# Altium footprint library PcbLib1.PcbLib: 46 footprints (part 3 of 3)
Each footprint in its own frame and in the unit in brackets; x right, y up, seen from the top. Pads: shape width x height; smd on the part's side, far side on the other; paste and mask are expansions set on the pad; w line width, h text height; cw(c..) or ccw(c..) is an arc to the next point about the centre after c.
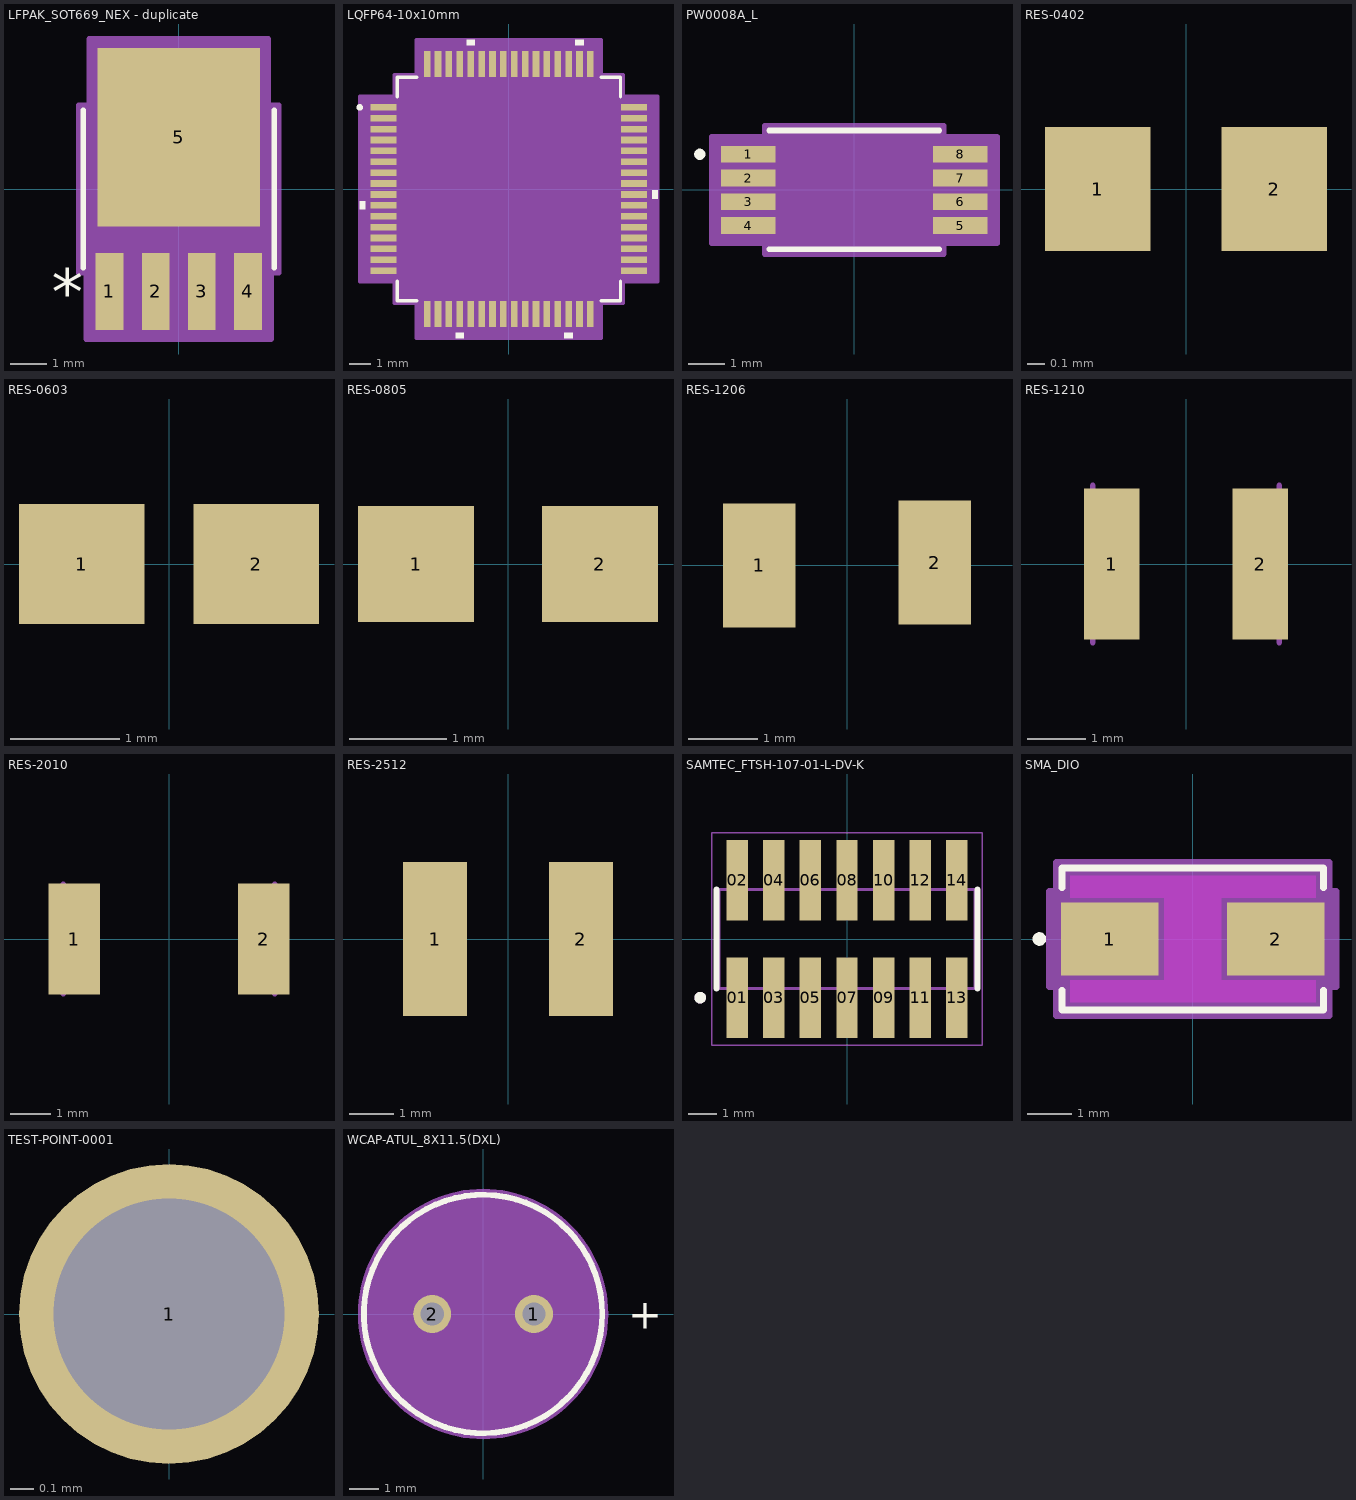
[diagram p2: the footprints below, top view; thin cyan lines are the x and y axes]

## LFPAK_SOT669_NEX - duplicate [mil]
pads (5):
  rect 30x83 smd paste+0 mask+0: 1(-75,-111) 2(-25,-111) 3(25,-111) 4(75,-111)
  rect 176x193 smd paste+0 mask+0: 5(0,56)
Top Overlay:
  lines w6: -103.5,-85.5 -103.5,85.5 ; 103.5,-85.5 103.5,85.5
  text "*" at -137.5,-136 h50
Top 3D Body:
  lines w1: -98.5,-80.5 -98.5,80.5 98.5,80.5 98.5,-80.5 -98.5,-80.5 ; -85,-132.5 -65,-132.5 -65,-80.5 -85,-80.5 -85,-132.5 ; -35,-132.5 -15,-132.5 -15,-80.5 -35,-80.5 -35,-132.5 ; 15,-132.5 35,-132.5 35,-80.5 15,-80.5 15,-132.5 ; 65,-132.5 85,-132.5 85,-80.5 65,-80.5 65,-132.5
  text "*" at -87.5,-95.5 h50
Top Courtyard:
  region: -108.5,-90.5 -108.5,90.5 -97,90.5 -97,162.5 97,162.5 97,90.5 108.5,90.5 108.5,-90.5 100,-90.5 100,-162.5 -100,-162.5 -100,-90.5
  lines w6: -108.5,-90.5 -100,-90.5 -100,-162.5 100,-162.5 100,-90.5 108.5,-90.5 108.5,90.5 97,90.5 97,162.5 -97,162.5 -97,90.5 -108.5,90.5 -108.5,-90.5
3D body "PSMN5R5-100YSFX.stp": height 29.44, standoff -9.84, extent -95.67,-115.55 93.7,125

## LQFP64-10x10mm [mm]
pads (64):
  rect 1.194x0.305 smd paste+0 mask+0: 1(-5.75,3.75) 2(-5.75,3.25) 3(-5.75,2.75) 4(-5.75,2.25) 5(-5.75,1.75) 6(-5.75,1.25) 7(-5.75,0.75) 8(-5.75,0.25) 9(-5.75,-0.25) 10(-5.75,-0.75) 11(-5.75,-1.25) 12(-5.75,-1.75) 13(-5.75,-2.25) 14(-5.75,-2.75) 15(-5.75,-3.25) 16(-5.75,-3.75) 33(5.75,-3.75) 34(5.75,-3.25) 35(5.75,-2.75) 36(5.75,-2.25) 37(5.75,-1.75) 38(5.75,-1.25) 39(5.75,-0.75) 40(5.75,-0.25) 41(5.75,0.25) 42(5.75,0.75) 43(5.75,1.25) 44(5.75,1.75) 45(5.75,2.25) 46(5.75,2.75) 47(5.75,3.25) 48(5.75,3.75)
  rect 0.305x1.194 smd paste+0 mask+0: 17(-3.75,-5.75) 18(-3.25,-5.75) 19(-2.75,-5.75) 20(-2.25,-5.75) 21(-1.75,-5.75) 22(-1.25,-5.75) 23(-0.75,-5.75) 24(-0.25,-5.75) 25(0.25,-5.75) 26(0.75,-5.75) 27(1.25,-5.75) 28(1.75,-5.75) 29(2.25,-5.75) 30(2.75,-5.75) 31(3.25,-5.75) 32(3.75,-5.75) 49(3.75,5.75) 50(3.25,5.75) 51(2.75,5.75) 52(2.25,5.75) 53(1.75,5.75) 54(1.25,5.75) 55(0.75,5.75) 56(0.25,5.75) 57(-0.25,5.75) 58(-0.75,5.75) 59(-1.25,5.75) 60(-1.75,5.75) 61(-2.25,5.75) 62(-2.75,5.75) 63(-3.25,5.75) 64(-3.75,5.75)
Top Overlay:
  circle w0.152: c-6.851,3.75 r0.076
  region: -6.601,-0.56 -6.855,-0.56 -6.855,-0.941 -6.601,-0.941
  region: -2.06,-6.601 -2.441,-6.601 -2.441,-6.855 -2.06,-6.855
  region: 2.94,-6.601 2.559,-6.601 2.559,-6.855 2.94,-6.855
  region: 6.601,-0.059 6.855,-0.059 6.855,-0.44 6.601,-0.44
  region: 3.441,6.601 3.06,6.601 3.06,6.855 3.441,6.855
  region: -1.559,6.601 -1.94,6.601 -1.94,6.855 -1.559,6.855
  lines w0.152: -5.131,-4.234 -5.131,-5.131 -4.234,-5.131 ; -5.131,4.234 -5.131,5.131 -4.234,5.131 ; 4.234,-5.131 5.131,-5.131 5.131,-4.234 ; 4.234,5.131 5.131,5.131 5.131,4.234
Top 3D Body:
  circle w0: c-4.518,3.75 r0.076
  lines w0.025: -5.004,3.734 -3.734,5.004 ; -5.004,-5.004 5.004,-5.004 5.004,5.004 -5.004,5.004 -5.004,-5.004
Top Courtyard:
  region: -4.258,-5.258 -5.258,-5.258 -5.258,-4.258 -6.855,-4.258 -6.855,4.258 -5.258,4.258 -5.258,5.258 -4.258,5.258 -4.258,6.855 4.258,6.855 4.258,5.258 5.258,5.258 5.258,4.258 6.855,4.258 6.855,-4.258 5.258,-4.258 5.258,-5.258 4.258,-5.258 4.258,-6.855 -4.258,-6.855
  lines w0.152: -6.855,-4.258 -5.258,-4.258 -5.258,-5.258 -4.258,-5.258 -4.258,-6.855 4.258,-6.855 4.258,-5.258 5.258,-5.258 5.258,-4.258 6.855,-4.258 6.855,4.258 5.258,4.258 5.258,5.258 4.258,5.258 4.258,6.855 -4.258,6.855 -4.258,5.258 -5.258,5.258 -5.258,4.258 -6.855,4.258 -6.855,-4.258
3D body "LQFP64-10x10mm.step": height 1.6, standoff 0, extent -5.997,-5.997 5.997,5.997

## PW0008A_L [mm]
pads (8):
  rect 1.499x0.457 smd paste+0 mask+0.051: 1(-2.9,0.975) 2(-2.9,0.325) 3(-2.9,-0.325) 4(-2.9,-0.975) 5(2.9,-0.975) 6(2.9,-0.325) 7(2.9,0.325) 8(2.9,0.975)
Top Overlay:
  circle w0.152: c-4.228,0.975 r0.076
  lines w0.152: -2.324,-1.626 2.324,-1.626 ; -2.324,1.626 2.324,1.626
  text ".Designator" at -3.492,-0.635 h1.27
Top 3D Body:
  circle w0.025: c-1.943,0.975 r0.076
  lines w0.025: -0.305,1.499 ccw(c0,1.499) 0.305,1.499 ; -2.197,-1.499 -2.197,1.499 2.197,1.499 2.197,-1.499 -2.197,-1.499
  text ".Designator" at -3.492,-0.635 h1.27
Top Courtyard:
  region: -2.451,-1.458 -3.903,-1.458 -3.903,1.458 -2.451,1.458 -2.451,1.753 2.451,1.753 2.451,1.458 3.903,1.458 3.903,-1.458 2.451,-1.458 2.451,-1.753 -2.451,-1.753
  lines w0.152: -3.903,-1.458 -2.451,-1.458 -2.451,-1.753 2.451,-1.753 2.451,-1.458 3.903,-1.458 3.903,1.458 2.451,1.458 2.451,1.753 -2.451,1.753 -2.451,1.458 -3.903,1.458 -3.903,-1.458
3D body "PW0008A_L.step": height 1.19, standoff 0, extent -3.299,-1.499 3.299,1.499

## RES-0402 [mm]
pads (2):
  rect 0.6x0.7 smd: 1(-0.5,0) 2(0.5,0)
3D body "1879131-6.stp": height 0.3, standoff 0, extent -0.5,-0.25 0.5,0.25

## RES-0603 [mm]
pads (2):
  rect 1.15x1.1 smd: 1(-0.8,0) 2(0.8,0)
3D body "2176051-4.STEP": height 0.43, standoff -0.03, extent -0.8,-0.4 0.8,0.4

## RES-0805 [mm]
pads (2):
  rect 1.2x1.2 smd: 1(-0.95,0) 2(0.95,0)
3D body "RC0805N_PAN.step": height 0.71, standoff 0, extent -1,-0.6 1,0.6

## RES-1206 [mm]
pads (2):
  rect 1.05x1.8 smd: 1(-1.275,0) 2(1.275,0.043)
3D body "D25-CRCW1206-IF e3.stp": height 0.55, standoff 0, extent -1.6,-0.775 1.6,0.825

## RES-1210 [mm] "Chip Resistor, 2-Leads, Body 3.10x2.60mm, IPC High Density"
height 0.6
pads (2):
  rect 0.95x2.6 smd: 1(-1.275,0) 2(1.275,0)
Top 3D Body:
  lines w0.1: -1.6,-1.35 -1.6,1.35 ; 1.6,-1.35 1.6,1.35
3D body: height 0.6, standoff 0, extent -1.1,-1.35 1.1,1.35
3D body: height 0.6, standoff 0, extent -1.6,-1.35 -1.1,1.35
3D body: height 0.6, standoff 0, extent 1.1,-1.35 1.6,1.35

## RES-2010 [mm]
pads (2):
  rect 1.26x2.72 smd: 1(-2.325,0) 2(2.325,0)
Top 3D Body:
  lines w0.127: -2.6,-1.35 -2.6,1.35 ; 2.6,-1.35 2.6,1.35
3D body "CR2010-JW-101ELF.STEP": height 0.7, standoff 0, extent -2.5,-1.25 2.5,1.25

## RES-2512 [mm]
pads (2):
  rect 1.45x3.5 smd: 1(-1.65,0) 2(1.65,0)

## SAMTEC_FTSH-107-01-L-DV-K [mm]
pads (14):
  rect 0.74x2.79 smd: 01(-3.81,-2.035) 02(-3.81,2.035) 03(-2.54,-2.035) 04(-2.54,2.035) 05(-1.27,-2.035) 06(-1.27,2.035) 07(0,-2.035) 08(0,2.035) 09(1.27,-2.035) 10(1.27,2.035) 11(2.54,-2.035) 12(2.54,2.035) 13(3.81,-2.035) 14(3.81,2.035)
Top Overlay:
  circle w0.2: c-5.095,-2.035 r0.1
  lines w0.2: -4.53,-1.715 -4.53,1.715 ; 4.53,-1.715 4.53,1.715
Top 3D Body:
  circle w0.2: c-5.095,-2.035 r0.1
  lines w0.1: -4.445,-1.715 -4.445,1.715 ; -4.445,-1.715 4.445,-1.715 ; -4.445,-1.715 -4.445,1.715 ; -4.445,1.715 4.445,1.715 ; -4.445,1.715 4.445,1.715 ; 4.445,-1.715 4.445,1.715 ; 4.445,-1.715 4.445,1.715
Top Courtyard:
  lines w0.05: -4.695,-3.68 4.695,-3.68 4.695,3.68 -4.695,3.68 -4.695,-3.68
3D body "FTSH-107-01-L-DV-K.stp": height 5.96, standoff -0.16, extent -4.445,-2.821 4.445,3.021

## SMA_DIO [mm]
pads (2):
  rect 2.18x1.63 smd paste+0 mask+0: 1(-1.857,0) 2(1.857,0)
Top Layer keep-out:
  region: -0.635,-0.917 -0.635,0.917 0.635,0.917 0.635,-0.917
  region: -2.744,0.917 -2.744,1.409 2.744,1.409 2.744,0.917
  region: -2.744,-1.409 -2.744,-0.917 2.744,-0.917 2.744,-1.409
Top Overlay:
  circle w0.152: c-3.429,0 r0.076
  lines w0.152: -2.922,-1.148 -2.922,-1.587 2.922,-1.587 2.922,-1.148 ; -2.922,1.148 -2.922,1.587 2.922,1.587 2.922,1.148
Keep-Out Layer:
  region: -0.635,-0.866 -0.635,0.866 0.635,0.866 0.635,-0.866
Top 3D Body:
  lines w0.025: -2.795,-1.46 2.795,-1.46 2.795,1.46 -2.795,1.46 -2.795,-1.46
Top Courtyard:
  region: -3.049,-1.069 -3.201,-1.069 -3.201,1.069 -3.049,1.069 -3.049,1.714 3.049,1.714 3.049,1.069 3.201,1.069 3.201,-1.069 3.049,-1.069 3.049,-1.714 -3.049,-1.714
  lines w0.152: -3.201,-1.069 -3.201,1.069 -3.049,1.069 -3.049,1.714 3.049,1.714 3.049,1.069 3.201,1.069 3.201,-1.069 3.049,-1.069 3.049,-1.714 -3.049,-1.714 -3.049,-1.069 -3.201,-1.069
3D body "SMA_DIO.step": height 2.35, standoff 0, extent -2.795,-1.46 2.795,1.46

## TEST-POINT-0001 [mm] "2024 miniature test point"
pads (1):
  round 1.3 hole 1: 1(0,0)
3D body "5003--3DModel-STEP-630548.STEP": height 4.57, standoff -3.05, extent -1.27,-1.27 1.27,1.27

## WCAP-ATUL_8X11.5(DXL) [mm]
pads (2):
  round 1.308 hole 0.8: 1(1.75,0) 2(-1.75,0)
Top Overlay:
  circle w0.2: c0,0 r4.1
  text "+" at 5,-0.5 h1.02
Top 3D Body:
  circle w0.1: c0,0 r4
  text "+" at 5,-0.5 h1.02
Top Courtyard:
  region: 0.225,4.294 0.449,4.276 0.673,4.247 0.894,4.206 1.113,4.153 1.329,4.09 1.541,4.014 1.749,3.928 1.952,3.831 2.15,3.724 2.342,3.606 2.527,3.479 2.706,3.342 2.877,3.196 3.041,3.041 3.196,2.877 3.342,2.706 3.479,2.527 3.606,2.342 3.724,2.15 3.831,1.952 3.928,1.749 4.014,1.541 4.09,1.329 4.153,1.113 4.206,0.894 4.247,0.673 4.276,0.449 4.294,0.225 4.3,0 4.294,-0.225 4.276,-0.449 4.247,-0.673 4.206,-0.894 4.153,-1.113 4.09,-1.329 4.014,-1.541 3.928,-1.749 3.831,-1.952 3.724,-2.15 3.606,-2.342 3.479,-2.527 3.342,-2.706 3.196,-2.877 3.041,-3.041 2.877,-3.196 2.706,-3.342 2.527,-3.479 2.342,-3.606 2.15,-3.724 1.952,-3.831 1.749,-3.928 1.541,-4.014 1.329,-4.09 1.113,-4.153 0.894,-4.206 0.673,-4.247 0.449,-4.276 0.225,-4.294 0,-4.3 -0.225,-4.294 -0.449,-4.276 -0.673,-4.247 -0.894,-4.206 -1.113,-4.153 -1.329,-4.09 -1.541,-4.014 -1.749,-3.928 -1.952,-3.831 -2.15,-3.724 -2.342,-3.606 -2.527,-3.479 -2.706,-3.342 -2.877,-3.196 -3.041,-3.041 -3.196,-2.877 -3.342,-2.706 -3.479,-2.527 -3.606,-2.342 -3.724,-2.15 -3.831,-1.952 -3.928,-1.749 -4.014,-1.541 -4.09,-1.329 -4.153,-1.113 -4.206,-0.894 -4.247,-0.673 -4.276,-0.449 -4.294,-0.225 -4.3,0 -4.294,0.225 -4.276,0.449 -4.247,0.673 -4.206,0.894 -4.153,1.113 -4.09,1.329 -4.014,1.541 -3.928,1.749 -3.831,1.952 -3.724,2.15 -3.606,2.342 -3.479,2.527 -3.342,2.706 -3.196,2.877 -3.041,3.041 -2.877,3.196 -2.706,3.342 -2.527,3.479 -2.342,3.606 -2.15,3.724 -1.952,3.831 -1.749,3.928 -1.541,4.014 -1.329,4.09 -1.113,4.153 -0.894,4.206 -0.673,4.247 -0.449,4.276 -0.225,4.294 0,4.3